# Altium schematic symbol library LT3757AEDD#PBF.SchLib: 1 symbol
Pins are listed as number, name and electrical type; pins without a type are passive.

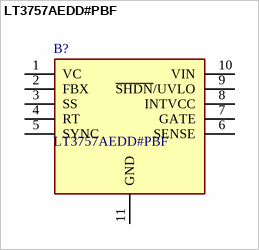
[diagram p0: symbol LT3757AEDD#PBF]

## LT3757AEDD#PBF
designator B?
Switching Controllers Boost, Fly, SEPIC & Inv Cntr; Manufacturer_Name: Analog Devices; Geometry.Height: 0.8mm; Mouser Part Number: 584-LT3757AEDD#PBF; Mouser Price/Stock: https://www.mouser.co.uk/ProductDetail/Analog-Devices/LT3757AEDDPBF?qs=hVkxg5c3xu8M5j4WPAqQQA%3D%3D; Manufacturer_Part_Number: LT3757AEDD#PBF; Datasheet Link: https://www.analog.com/media/en/technical-documentation/data-sheets/lt3757-3757a.pdf
footprint SON50P300X300X80-11N-D
pins: 1 VC, 2 FBX, 3 SS, 4 RT, 5 SYNC, 6 SENSE, 7 GATE, 8 INTVCC, 9 ~{SHDN}/UVLO, 10 VIN, 11 GND